# Altium schematic symbol library Schlib_LDR sensor.SchLib: 1 symbol
Pins are listed as number, name and electrical type; pins without a type are passive.

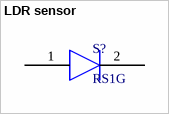
[diagram p0: symbol LDR sensor]

## LDR sensor
designator S?, comment RS1G
1A Independent Type 1.3V@1A 400V SMA(DO-214AC) Diodes - General Purpose ROHS; manufactor: SMC(Sangdest Microelectronicstronic (Nanjing)); ComponentLink1Description: snapeda; ComponentLink1URL: https://www.snapeda.com/parts/RS1G/Taiwan%20Semiconductor/view-part/?ref=search&t=LDR%20sensor%20smd; ComponentLink2Description: datasheet; ComponentLink2URL: https://www.snapeda.com/parts/RS1G/Taiwan%20Semiconductor/datasheet/; manufactor part time: RS1G; supplier: LCSC; supplier part time: C260336
footprint PCBComponent_1
pins: 1, 2